# Altium footprint library 30F-51.PcbLib: 1 footprints
Each footprint in its own frame and in the unit in brackets; x right, y up, seen from the top. Pads: shape width x height; smd on the part's side, far side on the other; paste and mask are expansions set on the pad; w line width, h text height; cw(c..) or ccw(c..) is an arc to the next point about the centre after c.
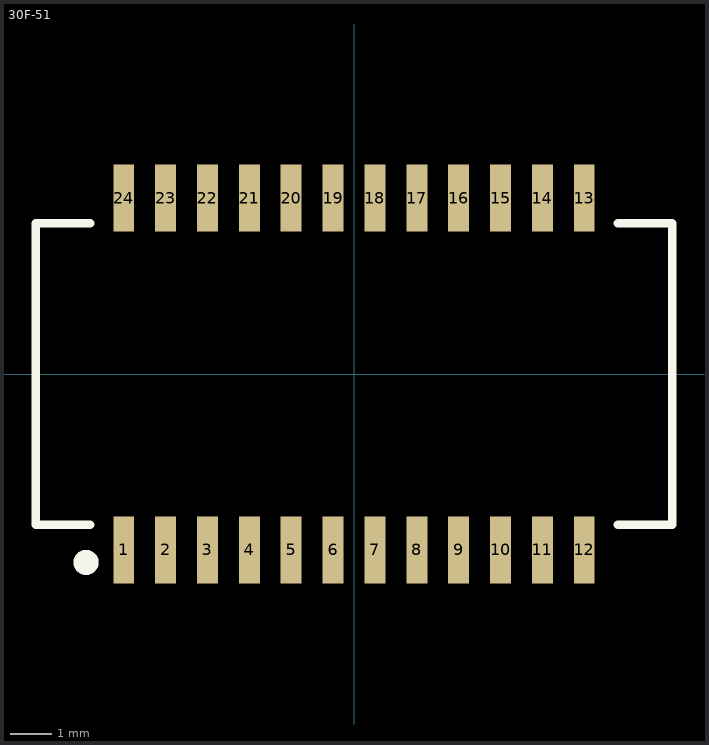
[diagram p0: the footprint, top view; thin cyan lines are the x and y axes]

## 30F-51 [mm]
height 4
pads (24):
  rect 0.5x1.6 smd: 1(-5.5,-4.2) 2(-4.5,-4.2) 3(-3.5,-4.2) 4(-2.5,-4.2) 5(-1.5,-4.2) 6(-0.5,-4.2) 7(0.5,-4.2) 8(1.5,-4.2) 9(2.5,-4.2) 10(3.5,-4.2) 11(4.5,-4.2) 12(5.5,-4.2) 13(5.5,4.2) 14(4.5,4.2) 15(3.5,4.2) 16(2.5,4.2) 17(1.5,4.2) 18(0.5,4.2) 19(-0.5,4.2) 20(-1.5,4.2) 21(-2.5,4.2) 22(-3.5,4.2) 23(-4.5,4.2) 24(-5.5,4.2)
Top Overlay:
  circle w0.3: c-6.4,-4.5 r0.15
  lines w0.2: -6.3,-3.6 -7.6,-3.6 -7.6,3.6 -6.5,3.6 -6.3,3.6 ; 6.3,-3.6 6.5,-3.6 7.6,-3.6 7.6,3.6 6.3,3.6
3D body: height 4, standoff -0.09, extent -7.55,-4.384 7.55,4.384